# Altium footprint library PCB - LEADED - SOP - NXP TSSOP-10 SOT552-1.PCBLIB: 1 footprints
Each footprint in its own frame and in the unit in brackets; x right, y up, seen from the top. Pads: shape width x height; smd on the part's side, far side on the other; paste and mask are expansions set on the pad; w line width, h text height; cw(c..) or ccw(c..) is an arc to the next point about the centre after c.
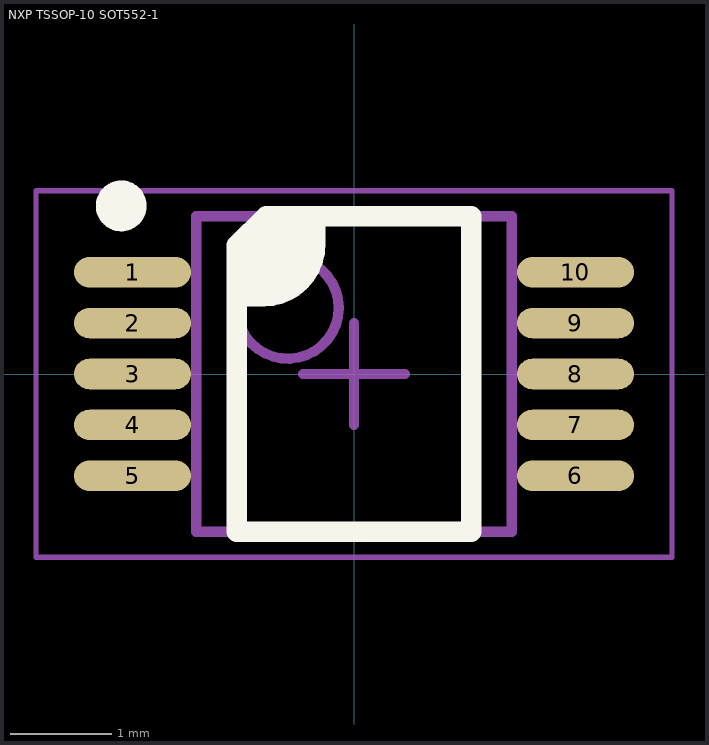
[diagram p0: the footprint, top view; thin cyan lines are the x and y axes]

## NXP TSSOP-10 SOT552-1 [mm] "TSSOP, 10-Leads, Body 3.00x3.00mm, Pitch 0.50mm, IPC Medium Density"
height 1.1
pads (10):
  oval 1.15x0.3 smd: 1(-2.175,1) 2(-2.175,0.5) 3(-2.175,0) 4(-2.175,-0.5) 5(-2.175,-1) 6(2.175,-1) 7(2.175,-0.5) 8(2.175,0) 9(2.175,0.5) 10(2.175,1)
Top Overlay:
  circle w0.25: c-2.286,1.651 r0.125
  region: -0.863,1.55 -0.837,1.524 -0.381,1.524 -0.381,1.016 -0.635,0.762 -1.143,0.762 -1.15,0.769 -1.15,1.263
  lines w0.2: -1.143,0.762 -0.889,0.762 ccw(c-0.889,1.27) -0.381,1.27 -0.381,1.524 ; -1.15,-1.55 1.15,-1.55 1.15,1.55 -0.863,1.55 -1.15,1.263 -1.15,-1.55
Mechanical 13:
  circle w0.1: c-0.65,0.65 r0.5
  lines w0.1: -1.55,-1.55 -1.55,1.55 1.55,1.55 1.55,-1.55 -1.55,-1.55
Mechanical 15:
  lines w0.05: -3.125,-1.8 -3.125,1.8 3.125,1.8 3.125,-1.8 -3.125,-1.8
Mechanical 2 (Mech9):
  lines w0.1: -0.5,0 0.5,0 ; 0,-0.5 0,0.5
3D body "NXP TSSOP-10 SOT552-1.step": height 1.1, standoff 0, extent -2.45,-1.55 2.45,1.55